# EAGLE library part PINHEAD (library draradech)
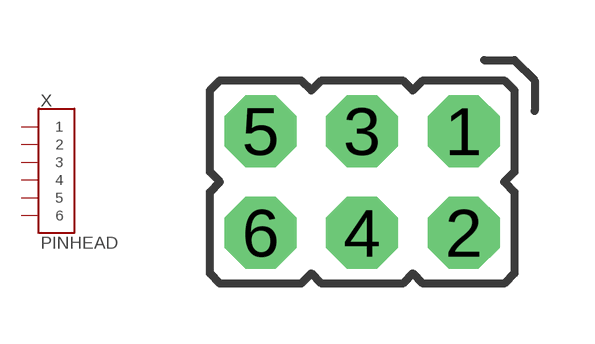
[diagram p2: symbol with the pads of 3X2; footprint 3X2]

Designator prefix X

## PINHEAD_3X2  [3X2]
1  1
2  2
3  3
4  4
5  5
6  6

## Footprint 3X2 (pad centres in mm)
drill 1.2 octagon: 1 2.54,1.27; 2 2.54,-1.27; 3 0,1.27; 4 0,-1.27; 5 -2.54,1.27; 6 -2.54,-1.27